# Altium schematic symbol library abak.SchLib: 7 symbols
Pins are listed as number, name and electrical type; pins without a type are passive.

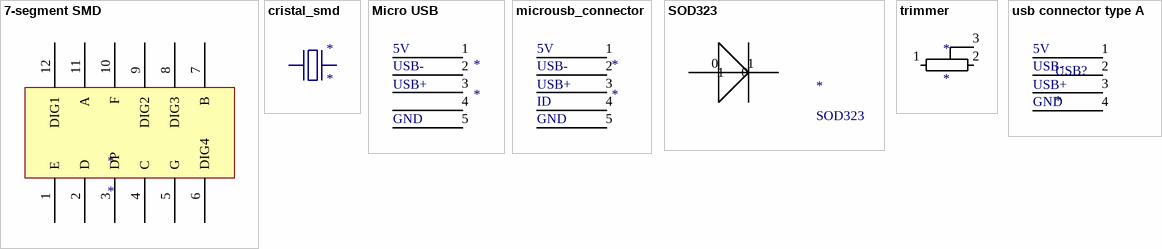
[diagram p0: symbols 7-segment SMD to usb connector type A]

## 7-segment SMD
designator *
footprint 7-segment SMD
pins: 1 E, 2 D, 3 DP, 4 C, 5 G, 6 DIG4, 7 B, 8 DIG3, 9 DIG2, 10 F, 11 A, 12 DIG1

## cristal_smd
designator *
footprint cristal
pins: 0, 1

## Micro USB
designator *
pins: 1, 2, 3, 4, 5
text: 5V; USB-; USB+; GND

## microusb_connector
designator *
footprint USB_connector_2
pins: 1, 2, 3, 4, 5
text: 5V; USB-; USB+; ID; GND

## SOD323
designator *
pins: 0, 1

## trimmer
designator *
footprint trimmer_place
pins: 1, 2, 3

## usb connector type A
designator USB?
footprint USB_connecter_T_A (USB1)
pins: 1, 2, 3, 4
text: 5V; USB-; USB+; GND